# Altium schematic symbol library U_TPS92513.SchLib: 1 symbol
Pins are listed as number, name and electrical type; pins without a type are passive.

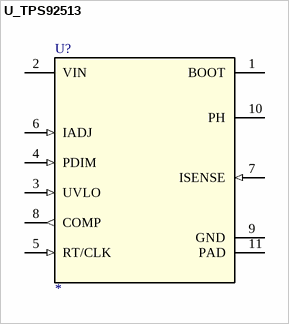
[diagram p0: symbol U_TPS92513]

## U_TPS92513
designator U?
pins: 1 BOOT (power), 2 VIN (power), 3 UVLO (in), 4 PDIM (in), 5 RT/CLK (in), 6 IADJ (in), 7 ISENSE (in), 8 COMP (out), 9 GND (power), 10 PH (power), 11 PAD (power)